# Altium integrated library Supernova Resistors.IntLib: 277 symbols (part 2 of 3)
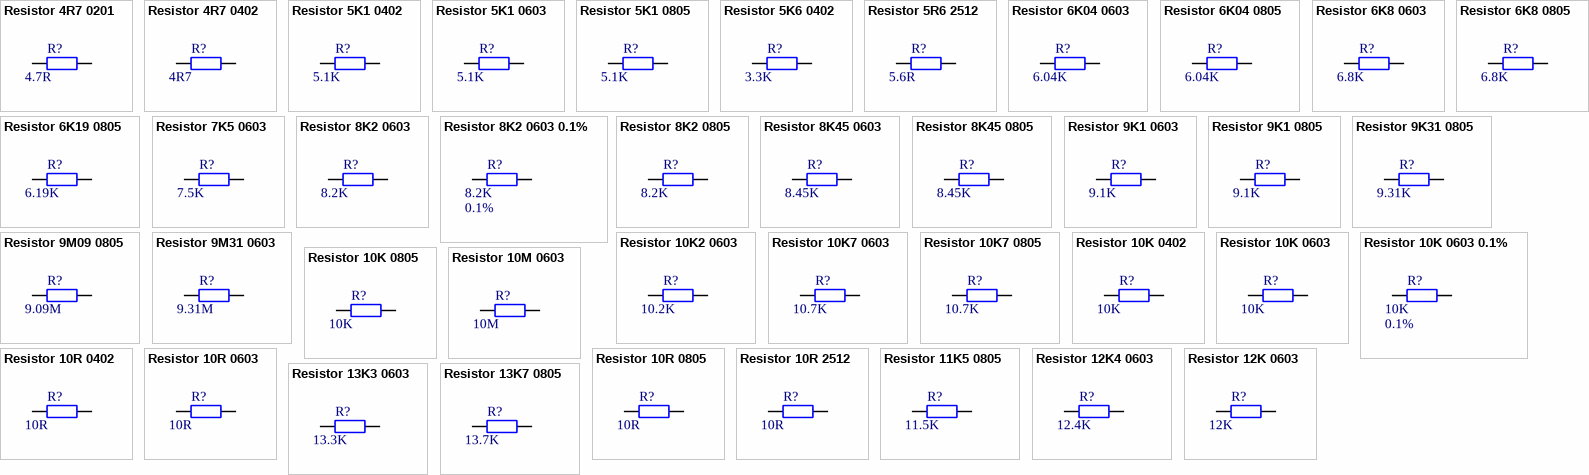
[diagram p8: symbols Resistor 4R7 0201 to Resistor 13K7 0805]

## Resistor 5R6 2512
designator R?, comment 5.6R
Resistor 5.6R 2512 1W 1%; Revision: Altium ETH 11-03.2008; Value: 5.6R; Supplier 1: Digi-Key; Supplier Part Number 1: PT5.6YCT-ND; Supplier 2: Digi-Key; Supplier Part Number 2: 541-5.60RCT-ND
footprint 2512 RES (Chip Resistor, 2-Leads, Body 6.30x3.20mm, IPC Medium Density)
simulation model Resistor
pins: 1, 2
1 alternate drawing of the same symbol

## Resistor 6K04 0603
designator R?, comment 6.04K
Resistor 6.04K 0603 0.1W 0.1%; Revision: Altium ETH 11-03.2008; Value: 6.04K; Supplier 1: Digi-Key; Supplier Part Number 1: P6.04KDBCT-ND; Supplier 2: Digi-Key; Supplier Part Number 2: YAG4769CT-ND
footprint 0603 RES (Chip Resistor, 2-Leads, Body 1.60x0.85mm, IPC Medium Density)
simulation model Resistor
pins: 1, 2
1 alternate drawing of the same symbol

## Resistor 6K04 0805
designator R?, comment 6.04K
Resistor 6.04K 0805 0.125W 0.1%; Revision: Altium ETH 11-03.2008; Value: 6.04K; Supplier 1: Digi-Key; Supplier Part Number 1: P6.04KDACT-ND; Supplier 2: Digi-Key; Supplier Part Number 2: P20683CT-ND
footprint 0805 RES (Chip Resistor, 2-Leads, Body 2.05x1.25mm, IPC Medium Density)
simulation model Resistor
pins: 1, 2
1 alternate drawing of the same symbol

## Resistor 6K8 0603
designator R?, comment 6.8K
Resistor 6.8K 0603 0.1W 1%; Mass_g: 0.002; Revision: Altium ETH 11-03.2008; Value: 6.8K; Supplier 1: Digi-Key; Supplier Part Number 1: P6.80KHCT-ND; Supplier 2: Digi-Key; Supplier Part Number 2: YAG5968CT-ND; Supplier 3: Digi-Key; Supplier Part Number 3: RMCF0603FT6K80CT-ND; Supplier 4: Digi-Key; Supplier Part Number 4: A129698CT-ND
footprint 0603 RES (Chip Resistor, 2-Leads, Body 1.60x0.85mm, IPC Medium Density)
simulation model Resistor
pins: 1, 2
1 alternate drawing of the same symbol

## Resistor 6K8 0805
designator R?, comment 6.8K
Resistor 6.8K 0805 0.125W 1%; Revision: Altium ETH 11-03.2008; Value: 6.8K; Supplier 1: Digi-Key; Supplier Part Number 1: 311-6.80KCRCT-ND; Supplier 2: Digi-Key; Supplier Part Number 2: P6.80KCCT-ND
footprint 0805 RES (Chip Resistor, 2-Leads, Body 2.05x1.25mm, IPC Medium Density)
simulation model Resistor
pins: 1, 2
1 alternate drawing of the same symbol

## Resistor 6K19 0805
designator R?, comment 6.19K
Resistor 6.19K 0805 0.125W 0.1%; Revision: Altium ETH 11-03.2008; Value: 6.19K; Supplier 1: Digi-Key; Supplier Part Number 1: P6.19KDACT-ND; Supplier 2: Digi-Key; Supplier Part Number 2: YAG1962CT-ND
footprint 0805 RES (Chip Resistor, 2-Leads, Body 2.05x1.25mm, IPC Medium Density)
simulation model Resistor
pins: 1, 2
1 alternate drawing of the same symbol

## Resistor 7K5 0603
designator R?, comment 7.5K
Resistor 7.5K 0603 0.1W 1%; Revision: Altium ETH 11-03.2008; Value: 7.5K; Supplier 1: Digi-Key; Supplier 2: Digi-Key; Supplier Part Number 1: P7.5KDBCT-ND; Supplier Part Number 2: 311-7.50KHRCT-ND
footprint 0603 RES (Chip Resistor, 2-Leads, Body 1.60x0.85mm, IPC Medium Density)
simulation model Resistor
pins: 1, 2
1 alternate drawing of the same symbol

## Resistor 8K2 0603
designator R?, comment 8.2K
Resistor 8.2K 0603 0.1W 1%; Mass_g: 0.002; Revision: Altium ETH 11-03.2008; Value: 8.2K; Supplier 1: Digi-Key; Supplier Part Number 1: 311-8.20KHRCT-ND; Supplier 2: Digi-Key; Supplier Part Number 2: P8.20KHCT-ND; Supplier 3: Digi-Key; Supplier Part Number 3: P8.2KBYCT-ND; Supplier 4: Digi-Key; Supplier Part Number 4: RMCF0603FT8K20CT-ND
footprint 0603 RES (Chip Resistor, 2-Leads, Body 1.60x0.85mm, IPC Medium Density)
simulation model Resistor
pins: 1, 2
1 alternate drawing of the same symbol

## Resistor 8K2 0603 0.1%
designator R?, comment 8.2K  Tolerance: 0.1%
Resistor 8.2K 0603 0.1W 0.1%; Mass_g: 0.002; Revision: Altium ETH 11-03.2008; Value: 8.2K; Supplier 1: Digi-Key; Supplier 2: Digi-Key; Supplier 3: Mouser; Supplier Part Number 1: A103134CT-ND; Supplier Part Number 2: A103134DKR-ND; Supplier Part Number 3: 279-CPF0603B8K2E1
footprint 0603 RES (Chip Resistor, 2-Leads, Body 1.60x0.85mm, IPC Medium Density)
simulation model Resistor
pins: 1, 2
1 alternate drawing of the same symbol

## Resistor 8K2 0805
designator R?, comment 8.2K
Resistor 8.2K 0805 0.125W 1%; Revision: Altium ETH 11-03.2008; Value: 8.2K; Supplier 1: Digi-Key; Supplier 2: Digi-Key; Supplier Part Number 1: 311-8.20KCRCT-ND; Supplier Part Number 2: P8.20KCCT-ND
footprint 0805 RES (Chip Resistor, 2-Leads, Body 2.05x1.25mm, IPC Medium Density)
simulation model Resistor
pins: 1, 2
1 alternate drawing of the same symbol

## Resistor 8K45 0603
designator R?, comment 8.45K
Resistor 8.45K 0603 0.1W 0.1%; Revision: Altium ETH 11-03.2008; Value: 8.45K; Supplier 1: Digi-Key; Supplier Part Number 1: P8.45KDBCT-ND; Supplier 2: Digi-Key; Supplier Part Number 2: P20078CT-ND
footprint 0603 RES (Chip Resistor, 2-Leads, Body 1.60x0.85mm, IPC Medium Density)
simulation model Resistor
pins: 1, 2
1 alternate drawing of the same symbol

## Resistor 8K45 0805
designator R?, comment 8.45K
Resistor 8.45K 0805 0.125W 1%; Revision: Altium ETH 11-03.2008; Value: 8.45K; Supplier 1: Digi-Key; Supplier 2: Digi-Key; Supplier Part Number 1: 311-8.45KCRCT-ND; Supplier Part Number 2: P8.45KCCT-ND
footprint 0805 RES (Chip Resistor, 2-Leads, Body 2.05x1.25mm, IPC Medium Density)
simulation model Resistor
pins: 1, 2
1 alternate drawing of the same symbol

## Resistor 9K1 0603
designator R?, comment 9.1K
Resistor 9.1K 0603 0.1W 1%; Revision: Altium ETH 11-03.2008; Value: 9.1K; Supplier 1: Digi-Key; Supplier Part Number 1: P9.10KHCT-ND; Supplier 2: Digi-Key; Supplier Part Number 2: 311-9.10KHRCT-ND
footprint 0603 RES (Chip Resistor, 2-Leads, Body 1.60x0.85mm, IPC Medium Density)
simulation model Resistor
pins: 1, 2
1 alternate drawing of the same symbol

## Resistor 9K1 0805
designator R?, comment 9.1K
Resistor 9.1K 0805 0.125W 1%; Revision: Altium ETH 11-03.2008; Value: 9.1K; Supplier 1: Digi-Key; Supplier Part Number 1: P9.10KCCT-ND; Supplier 2: Digi-Key; Supplier Part Number 2: 311-9.10KCRCT-ND
footprint 0805 RES (Chip Resistor, 2-Leads, Body 2.05x1.25mm, IPC Medium Density)
simulation model Resistor
pins: 1, 2
1 alternate drawing of the same symbol

## Resistor 9K31 0805
designator R?, comment 9.31K
Resistor 9.31K 0805 0.125W 0.1%; Revision: Altium ETH 11-03.2008; Value: 9.31K; Supplier 1: Digi-Key; Supplier 2: Digi-Key; Supplier Part Number 1: YAG2002CT-ND; Supplier Part Number 2: P20705CT-ND
footprint 0805 RES (Chip Resistor, 2-Leads, Body 2.05x1.25mm, IPC Medium Density)
simulation model Resistor
pins: 1, 2
1 alternate drawing of the same symbol

## Resistor 9M09 0805
designator R?, comment 9.09M
Resistor 9M09 0805 0.125W 1%; Revision: Altium ETH 11-03.2008; Value: 9.09M; Supplier 1: Digi-Key; Supplier Part Number 1: 541-9.09MCCT-ND; Supplier 2: Mouser; Supplier Part Number 2: 71-CRCW08059M09FKEA
footprint 0805 RES (Chip Resistor, 2-Leads, Body 2.05x1.25mm, IPC Medium Density)
simulation model Resistor
pins: 1, 2
1 alternate drawing of the same symbol

## Resistor 9M31 0603
designator R?, comment 9.31M
Resistor 9M31 0603 0.1W 1%; Value: 9.31Meg; Revision: Altium ETH 11-03.2008; Supplier 1: Digi-Key; Supplier 2: Mouser; Supplier Part Number 2: 71-CRCW06039M31FKEA; Supplier Part Number 1: 541-9.31MHCT-ND
footprint 0603 RES (Chip Resistor, 2-Leads, Body 1.60x0.85mm, IPC Medium Density)
simulation model Resistor
pins: 1, 2
1 alternate drawing of the same symbol

## Resistor 10K2 0603
designator R?, comment 10.2K
Resistor 10.2K 0603 0.1W 0.1%; Revision: Altium ETH 11-03.2008; Value: 10.2K; Supplier 1: Digi-Key; Supplier Part Number 1: YAG1502CT-ND; Supplier 2: Digi-Key; Supplier Part Number 2: P20087CT-ND
footprint 0603 RES (Chip Resistor, 2-Leads, Body 1.60x0.85mm, IPC Medium Density)
simulation model Resistor
pins: 1, 2
1 alternate drawing of the same symbol

## Resistor 10K7 0603
designator R?, comment 10.7K
Resistor 10.7K 0603 0.1W 0.1%; Revision: Altium ETH 11-03.2008; Value: 10.7K; Supplier 1: Digi-Key; Supplier Part Number 1: P10.7KDBCT-ND; Supplier 2: Digi-Key; Supplier Part Number 2: YAG1504CT-ND
footprint 0603 RES (Chip Resistor, 2-Leads, Body 1.60x0.85mm, IPC Medium Density)
simulation model Resistor
pins: 1, 2
1 alternate drawing of the same symbol

## Resistor 10K7 0805
designator R?, comment 10.7K
Resistor 10.7K 0805 0.125W 0.1%; Revision: Altium ETH 11-03.2008; Value: 10.7K; Supplier 1: Digi-Key; Supplier Part Number 1: P10.7KDACT-ND; Supplier 2: Digi-Key; Supplier Part Number 2: YAG1762CT-ND
footprint 0805 RES (Chip Resistor, 2-Leads, Body 2.05x1.25mm, IPC Medium Density)
simulation model Resistor
pins: 1, 2
1 alternate drawing of the same symbol

## Resistor 10K 0402
designator R?, comment 10K
Resistor 10K 0402 0.063W 1%; Revision: Altium ETH 11-03.2008; Value: 10K; Supplier 1: Digi-Key; Supplier Part Number 1: 311-10.0KLRCT-ND; Supplier 2: Digi-Key; Supplier Part Number 2: 1276-3431-1-ND; Supplier 3: Digi-Key; Supplier Part Number 3: A129639CT-ND
footprint 0402 RES (Chip Capacitor, 2-Leads, Body 1.00x0.50mm, IPC Medium Density)
simulation model Resistor
pins: 1, 2
1 alternate drawing of the same symbol

## Resistor 10K 0603
designator R?, comment 10K
Resistor 10K 0603 0.1W 1%; Mass_g: 0.002; Revision: Altium ETH 11-03.2008; Value: 10K; Supplier 1: Digi-Key; Supplier Part Number 1: 311-10.0KHRCT-ND; Supplier 2: Digi-Key; Supplier Part Number 2: P10KBYCT-ND
footprint 0603 RES (Chip Resistor, 2-Leads, Body 1.60x0.85mm, IPC Medium Density)
simulation model Resistor
pins: 1, 2
1 alternate drawing of the same symbol

## Resistor 10K 0603 0.1%
designator R?, comment 10K  Tolerance: 0.1%
Resistor 10K 0603 0.1W 0.1%; Mass_g: 0.002; Revision: Altium ETH 11-03.2008; Value: 10K; Supplier 1: Mouser; Supplier 2: Mouser; Supplier Part Number 1: 667-ERA-3AEB103V; Supplier Part Number 2: 71-TNPW060310K0BEEA
footprint 0603 RES (Chip Resistor, 2-Leads, Body 1.60x0.85mm, IPC Medium Density)
simulation model Resistor
pins: 1, 2
1 alternate drawing of the same symbol

## Resistor 10K 0805
designator R?, comment 10K
Resistor 10K 0805 0.125W 1%; Revision: Altium ETH 11-03.2008; Value: 10K; Supplier 1: Digi-Key; Supplier Part Number 1: 311-10.0KCRCT-ND; Supplier 2: Digi-Key; Supplier Part Number 2: YAG1239CT-ND
footprint 0805 RES (Chip Resistor, 2-Leads, Body 2.05x1.25mm, IPC Medium Density)
simulation model Resistor
footprint 0805 RES - DNP (Chip Resistor, 2-Leads, Body 2.05x1.25mm, IPC Medium Density)
footprint 0805 RES - SM Defined (Chip Resistor, 2-Leads, Body 2.05x1.25mm, IPC Medium Density)
pins: 1, 2
1 alternate drawing of the same symbol

## Resistor 10M 0603
designator R?, comment 10M
Resistor 10M 0603 0.1W 1%; Value: 10Meg; Revision: Altium ETH 11-03.2008; Supplier 1: Digi-Key; Supplier Part Number 1: 1276-4990-1-ND; Supplier 2: Digi-Key; Supplier Part Number 2: 311-10.0MHRCT-ND; Supplier 3: Digi-Key; Supplier Part Number 3: RHM10.0MAYCT-ND
footprint 0603 RES (Chip Resistor, 2-Leads, Body 1.60x0.85mm, IPC Medium Density)
simulation model Resistor
pins: 1, 2
1 alternate drawing of the same symbol

## Resistor 10R 0402
designator R?, comment 10R
Resistor 10R 0402 0.063W; Revision: Altium ETH 11-03.2008; Value: 10R; Supplier 1: Digi-Key; Supplier Part Number 1: RHM1000CT-ND; Supplier 2: Digi-Key; Supplier Part Number 2: P17181CT-ND; Supplier 3: Digi-Key; Supplier Part Number 3: 541-2907-1-ND
footprint 0402 RES (Chip Capacitor, 2-Leads, Body 1.00x0.50mm, IPC Medium Density)
simulation model Resistor
pins: 1, 2
1 alternate drawing of the same symbol

## Resistor 10R 0603
designator R?, comment 10R
Resistor 10R 0603 0.1W 1%; Mass_g: 0.002; Revision: Altium ETH 11-03.2008; Value: 10R; Supplier 1: Digi-Key; Supplier Part Number 1: P10.0HCT-ND; Supplier 2: Digi-Key; Supplier Part Number 2: 311-10.0HRCT-ND; Supplier 3: Digi-Key; Supplier Part Number 3: RMCF0603FT10R0CT-ND
footprint 0603 RES (Chip Resistor, 2-Leads, Body 1.60x0.85mm, IPC Medium Density)
simulation model Resistor
pins: 1, 2
1 alternate drawing of the same symbol

## Resistor 10R 0805
designator R?, comment 10R
Resistor 10R 0805 0.125W 1%; Revision: Altium ETH 11-03.2008; Value: 10R; Supplier 1: Digi-Key; Supplier Part Number 1: P10.0CTR-ND; Supplier 2: Digi-Key; Supplier Part Number 2: 311-10.0CRCT-ND
footprint 0805 RES (Chip Resistor, 2-Leads, Body 2.05x1.25mm, IPC Medium Density)
simulation model Resistor
pins: 1, 2
1 alternate drawing of the same symbol

## Resistor 10R 2512
designator R?, comment 10R
Resistor 10R 2512 1W 1%; Revision: Altium ETH 11-03.2008; Value: 10R; Supplier 1: Digi-Key; Supplier Part Number 1: PT10.0AFCT-ND; Supplier 2: Digi-Key; Supplier Part Number 2: CRM2512-FX-10R0ELFCT-ND
footprint 2512 RES (Chip Resistor, 2-Leads, Body 6.30x3.20mm, IPC Medium Density)
simulation model Resistor
pins: 1, 2
1 alternate drawing of the same symbol

## Resistor 11K5 0805
designator R?, comment 11.5K
Resistor 11.5K 0805 0.125W 0.1%; Revision: Altium ETH 11-03.2008; Value: 11.5K; Supplier 1: Digi-Key; Supplier 2: Digi-Key; Supplier Part Number 1: YAG1768CT-ND; Supplier Part Number 2: P11.5KDACT-ND
footprint 0805 RES (Chip Resistor, 2-Leads, Body 2.05x1.25mm, IPC Medium Density)
simulation model Resistor
pins: 1, 2
1 alternate drawing of the same symbol

## Resistor 12K4 0603
designator R?, comment 12.4K
Resistor 12.4K 0603 0.1W 0.1%; Revision: Altium ETH 11-03.2008; Value: 12.4K; Supplier 1: Digi-Key; Supplier 2: Digi-Key; Supplier Part Number 1: P20096CT-ND; Supplier Part Number 2: YAG4620CT-ND
footprint 0603 RES (Chip Resistor, 2-Leads, Body 1.60x0.85mm, IPC Medium Density)
simulation model Resistor
pins: 1, 2
1 alternate drawing of the same symbol

## Resistor 12K 0603
designator R?, comment 12K
Resistor 12K 0603 0.1W 1%; Revision: Altium ETH 11-03.2008; Value: 12K; Supplier 1: Digi-Key; Supplier Part Number 1: P12.0KHCT-ND; Supplier 2: Digi-Key; Supplier Part Number 2: 311-12.0KHRCT-ND; Supplier 3: Digi-Key; Supplier Part Number 3: RMCF0603FT12K0CT-ND
footprint 0603 RES (Chip Resistor, 2-Leads, Body 1.60x0.85mm, IPC Medium Density)
simulation model Resistor
pins: 1, 2
1 alternate drawing of the same symbol

## Resistor 13K3 0603
designator R?, comment 13.3K
Resistor 13.3K 0603 0.1W 1%; Mass_g: 0.002; Revision: Altium ETH 11-03.2008; Value: 13.3K; Supplier 1: Digi-Key; Supplier 2: Digi-Key; Supplier Part Number 1: 311-13.3KHRCT-ND; Supplier Part Number 2: P13.3KHCT-ND
footprint 0603 RES (Chip Resistor, 2-Leads, Body 1.60x0.85mm, IPC Medium Density)
simulation model Resistor
pins: 1, 2
1 alternate drawing of the same symbol

## Resistor 13K7 0805
designator R?, comment 13.7K
Resistor 13.7K 0805 0.125W 0.1%; Revision: Altium ETH 11-03.2008; Value: 13.7K; Supplier 1: Digi-Key; Supplier Part Number 1: P20722CT-ND; Supplier 2: Digi-Key; Supplier Part Number 2: P13.7KDACT-ND
footprint 0805 RES (Chip Resistor, 2-Leads, Body 2.05x1.25mm, IPC Medium Density)
simulation model Resistor
pins: 1, 2
1 alternate drawing of the same symbol

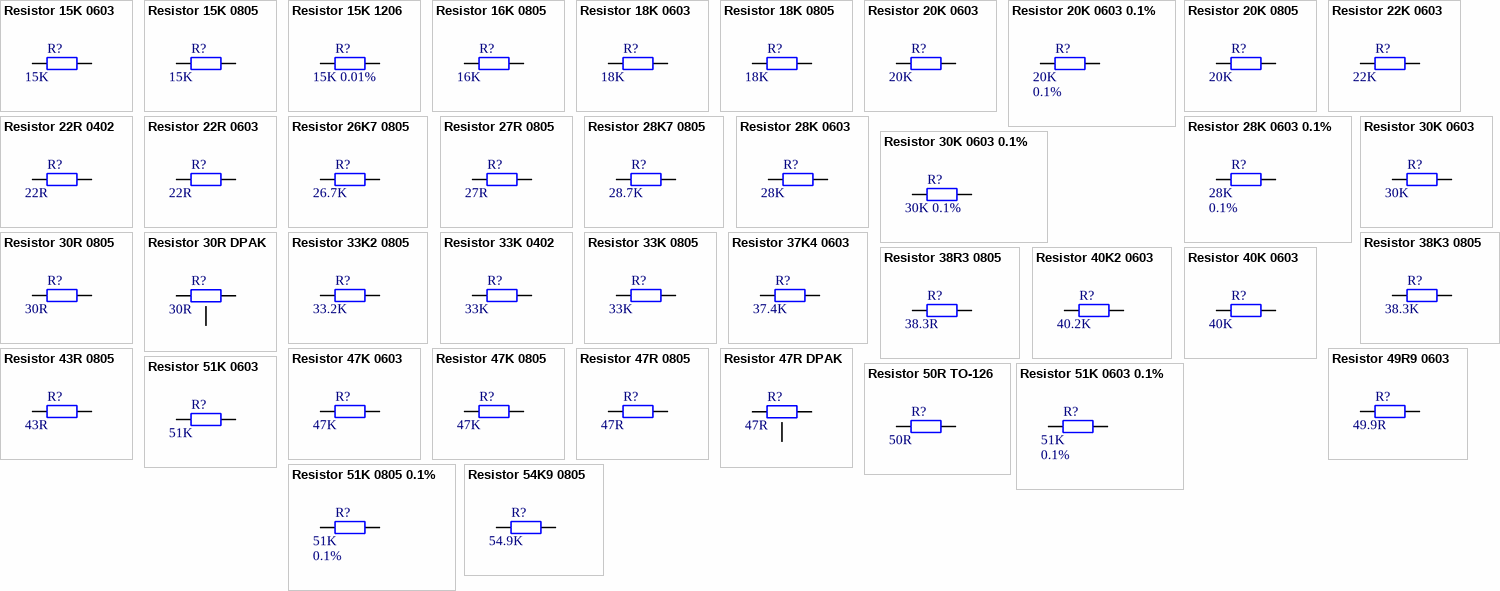
[diagram p4: symbols Resistor 15K 0603 to Resistor 54K9 0805]

## Resistor 15K 0603
designator R?, comment 15K
Resistor 15K 0603 0.1W 1%; Revision: Altium ETH 11-03.2008; Value: 15K; Supplier 1: Digi-Key; Supplier Part Number 1: P15.0KHCT-ND; Supplier 2: Digi-Key; Supplier Part Number 2: 311-15.0KHRCT-ND
footprint 0603 RES (Chip Resistor, 2-Leads, Body 1.60x0.85mm, IPC Medium Density)
simulation model Resistor
pins: 1, 2
1 alternate drawing of the same symbol

## Resistor 15K 0805
designator R?, comment 15K
Resistor 15K 0805 0.125W 1%; Revision: Altium ETH 11-03.2008; Value: 15K; Supplier 1: Digi-Key; Supplier Part Number 1: P15.0KCCT-ND; Supplier 2: Digi-Key; Supplier Part Number 2: 311-15.0KCRCT-ND
footprint 0805 RES (Chip Resistor, 2-Leads, Body 2.05x1.25mm, IPC Medium Density)
simulation model Resistor
pins: 1, 2
1 alternate drawing of the same symbol

## Resistor 15K 1206
designator R?, comment 15K 0.01%
Resistor 15K 1206 0.25W 0.01%; Revision: Altium ETH 11-03.2008; Value: 15K 0.01%; Supplier 1: Digi-Key; Supplier Part Number 1: Y1630-15.0KBCT-ND; Supplier 2: Digi-Key; Supplier Part Number 2: 541-3082-1-ND
footprint 1206 RES (Chip Resistor, 2-Leads, Body 3.20x1.60mm, IPC Medium Density)
simulation model Resistor
pins: 1, 2
1 alternate drawing of the same symbol

## Resistor 16K 0805
designator R?, comment 16K
Resistor 16K 0805 0.1W 1%; Revision: Altium ETH 11-03.2008; Value: 16K; Supplier 1: Digi-Key; Supplier 2: Digi-Key; Supplier Part Number 1: 311-16.0KCRCT-ND; Supplier Part Number 2: P16.0KCCT-ND
footprint 0805 RES (Chip Resistor, 2-Leads, Body 2.05x1.25mm, IPC Medium Density)
simulation model Resistor
pins: 1, 2
1 alternate drawing of the same symbol

## Resistor 18K 0603
designator R?, comment 18K
Resistor 18K 0603 0.1W 1%; Revision: Altium ETH 11-03.2008; Value: 18K; Supplier 1: Digi-Key; Supplier Part Number 1: P18.0KHCT-ND; Supplier 2: Digi-Key; Supplier Part Number 2: 311-18.0KHRCT-ND
footprint 0603 RES (Chip Resistor, 2-Leads, Body 1.60x0.85mm, IPC Medium Density)
simulation model Resistor
pins: 1, 2
1 alternate drawing of the same symbol

## Resistor 18K 0805
designator R?, comment 18K
Resistor 18K 0805 0.125W 1%; Revision: Altium ETH 11-03.2008; Value: 18K; Supplier 1: Digi-Key; Supplier Part Number 1: P18.0KCCT-ND; Supplier 2: Digi-Key; Supplier Part Number 2: 311-18.0KCRCT-ND
footprint 0805 RES (Chip Resistor, 2-Leads, Body 2.05x1.25mm, IPC Medium Density)
simulation model Resistor
pins: 1, 2
1 alternate drawing of the same symbol

## Resistor 20K 0603
designator R?, comment 20K
Resistor 20K 0603 0.1W 1%; Mass_g: 0.002; Revision: Altium ETH 11-03.2008; Value: 20K; Supplier 1: Digi-Key; Supplier Part Number 1: P20KDBCT-ND; Supplier 2: Digi-Key; Supplier Part Number 2: P20.0KHCT-ND; Supplier 3: Digi-Key; Supplier Part Number 3: P20KBYCT-ND; Supplier 4: Digi-Key; Supplier Part Number 4: 541-2797-1-ND
footprint 0603 RES (Chip Resistor, 2-Leads, Body 1.60x0.85mm, IPC Medium Density)
simulation model Resistor
pins: 1, 2
1 alternate drawing of the same symbol

## Resistor 20K 0603 0.1%
designator R?, comment 20K  Tolerance: 0.1%
Resistor 20K 0603 0.1W 0.1%; Mass_g: 0.002; Revision: Altium ETH 11-03.2008; Value: 20K; Supplier 1: Digi-Key; Supplier 2: Mouser; Supplier Part Number 1: P20KDBCT-ND; Supplier Part Number 2: 71-TNPW060320K0BETA
footprint 0603 RES (Chip Resistor, 2-Leads, Body 1.60x0.85mm, IPC Medium Density)
simulation model Resistor
pins: 1, 2
1 alternate drawing of the same symbol

## Resistor 20K 0805
designator R?, comment 20K
Resistor 20K 0805 0.1W 1%; Mass_g: 0.0055; Revision: Altium ETH 11-03.2008; Value: 20K; Supplier 1: Digi-Key; Supplier Part Number 1: RMCF0805FT20K0CT-ND; Supplier 2: Digi-Key; Supplier Part Number 2: P20.0KCCT-ND
footprint 0805 RES (Chip Resistor, 2-Leads, Body 2.05x1.25mm, IPC Medium Density)
simulation model Resistor
footprint 0805 RES - for POT (Chip Resistor, 2-Leads, Body 2.05x1.25mm, IPC Medium Density)
pins: 1, 2
1 alternate drawing of the same symbol

## Resistor 22K 0603
designator R?, comment 22K
Resistor 22K 0603 0.1W 1%; Revision: Altium ETH 11-03.2008; Value: 22K; Supplier 1: Digi-Key; Supplier 2: Digi-Key; Supplier Part Number 1: 311-22.0KHRTR-ND; Supplier Part Number 2: A129704CT-ND
footprint 0603 RES (Chip Resistor, 2-Leads, Body 1.60x0.85mm, IPC Medium Density)
simulation model Resistor
pins: 1, 2
1 alternate drawing of the same symbol

## Resistor 22R 0402
designator R?, comment 22R
Resistor 22R 0402 0.063W 1%; Revision: Altium ETH 11-03.2008; Value: 22R; Supplier 1: Digi-Key; Supplier Part Number 1: 311-22.0LRCT-ND; Supplier 2: Digi-Key; Supplier Part Number 2: P22.0LCT-ND; Supplier 3: Digi-Key; Supplier Part Number 3: A129607CT-ND
footprint 0402 RES (Chip Capacitor, 2-Leads, Body 1.00x0.50mm, IPC Medium Density)
simulation model Resistor
pins: 1, 2
1 alternate drawing of the same symbol

## Resistor 22R 0603
designator R?, comment 22R
Resistor 22R 0603 0.1W 1%; Revision: Altium ETH 11-03.2008; Value: 22R; Supplier 1: Digi-Key; Supplier Part Number 1: P22.00BYCT-ND; Supplier 2: Digi-Key; Supplier Part Number 2: RMCF0603FT22R0CT-ND
footprint 0603 RES (Chip Resistor, 2-Leads, Body 1.60x0.85mm, IPC Medium Density)
simulation model Resistor
pins: 1, 2
1 alternate drawing of the same symbol

## Resistor 26K7 0805
designator R?, comment 26.7K
Resistor 26.7K 0805 0.125W 0.1%; Revision: Altium ETH 11-03.2008; Value: 26.7K; Supplier 1: Digi-Key; Supplier Part Number 1: P26.7KDACT-ND; Supplier 2: Digi-Key; Supplier Part Number 2: YAG4866CT-ND
footprint 0805 RES (Chip Resistor, 2-Leads, Body 2.05x1.25mm, IPC Medium Density)
simulation model Resistor
pins: 1, 2
1 alternate drawing of the same symbol

## Resistor 27R 0805
designator R?, comment 27R
Resistor 27R 0805 0.125W 1%; Revision: Altium ETH 11-03.2008; Value: 27R; Supplier 1: Digi-Key; Supplier Part Number 1: 311-27.0CRCT-ND; Supplier 2: Digi-Key; Supplier Part Number 2: P27.0CCT-ND
footprint 0805 RES (Chip Resistor, 2-Leads, Body 2.05x1.25mm, IPC Medium Density)
simulation model Resistor
pins: 1, 2
1 alternate drawing of the same symbol

## Resistor 28K7 0805
designator R?, comment 28.7K
Resistor 28.7K 0805 0.125W 0.1%; Revision: Altium ETH 11-03.2008; Value: 28.7K; Supplier 1: Digi-Key; Supplier 2: Digi-Key; Supplier Part Number 1: P28.7KDACT-ND; Supplier Part Number 2: RG20P28.7KBCT-ND
footprint 0805 RES (Chip Resistor, 2-Leads, Body 2.05x1.25mm, IPC Medium Density)
simulation model Resistor
pins: 1, 2
1 alternate drawing of the same symbol

## Resistor 28K 0603
designator R?, comment 28K
Resistor 28K 0603 0.1W 1%; Revision: Altium ETH 11-03.2008; Value: 28K; Supplier 1: Avnet; Supplier Part Number 1: RMCF0603FT28K0; Supplier 2: Digi-Key; Supplier Part Number 2: RMCF0603FT28K0CT-ND
footprint 0603 RES (Chip Resistor, 2-Leads, Body 1.60x0.85mm, IPC Medium Density)
simulation model Resistor
pins: 1, 2
1 alternate drawing of the same symbol

## Resistor 28K 0603 0.1%
designator R?, comment 28K  Tolerance: 0.1%
Resistor 28K 0603 0.1W 0.1%; Revision: Altium ETH 11-03.2008; Value: 28K; Supplier 1: Digi-Key; Supplier 2: Digi-Key; Supplier 3: Digi-Key; Supplier Part Number 1: P28KDBCT-ND; Supplier Part Number 2: P28KDBDKR-ND; Supplier Part Number 3: P28KDBTR-ND
footprint 0603 RES (Chip Resistor, 2-Leads, Body 1.60x0.85mm, IPC Medium Density)
simulation model Resistor
pins: 1, 2
1 alternate drawing of the same symbol

## Resistor 30K 0603
designator R?, comment 30K
Resistor 30K 0603 0.1W 1%; Revision: Altium ETH 11-03.2008; Value: 30K; Supplier 1: Digi-Key; Supplier Part Number 1: 311-30.0KHRCT-ND; Supplier 2: Digi-Key; Supplier Part Number 2: P30.0KHCT-ND; Supplier 3: Digi-Key; Supplier Part Number 3: RMCF0603FT30K0CT-ND
footprint 0603 RES (Chip Resistor, 2-Leads, Body 1.60x0.85mm, IPC Medium Density)
simulation model Resistor
pins: 1, 2
1 alternate drawing of the same symbol

## Resistor 30K 0603 0.1%
designator R?, comment 30K 0.1%
Resistor 30K 0603 0.1W 0.1%; Revision: Altium ETH 11-03.2008; Value: 30K 0.1%; Supplier 1: Mouser; Supplier Part Number 1: 667-ERA-3AEB303V; Supplier 2: Digi-Key; Supplier Part Number 2: P30KDBCT-ND; Supplier 3: Digi-Key; Supplier Part Number 3: 2019-RN73H1JTTD3002B25CT-ND
footprint 0603 RES (Chip Resistor, 2-Leads, Body 1.60x0.85mm, IPC Medium Density)
simulation model Resistor
pins: 1, 2
1 alternate drawing of the same symbol

## Resistor 30R 0805
designator R?, comment 30R
Resistor 30R 0805 0.125W 1%; Revision: Altium ETH 11-03.2008; Value: 30R; Supplier 1: Digi-Key; Supplier Part Number 1: P30.0CCT-ND; Supplier 2: Digi-Key; Supplier Part Number 2: 311-30.0CRCT-ND
footprint 0805 RES (Chip Resistor, 2-Leads, Body 2.05x1.25mm, IPC Medium Density)
simulation model Resistor
pins: 1, 2
1 alternate drawing of the same symbol

## Resistor 30R DPAK
designator R?, comment 30R
Resistor 30R DPAK 25W 5%; Revision: Altium ETH 11-03.2008; Value: 30R; Supplier 1: Digi-Key; Supplier Part Number 1: PWR163S-25-30R0F-ND; Supplier 2: Digi-Key; Supplier Part Number 2: PWR163S-25-30R0J-ND
footprint DPAK - Bourns (D2-PAK/TO-263-AB; 3 Leads (1 Cropped); Body 15.5 (inc. leads) x 10.5 mm (LxW max))
simulation model Resistor
footprint DPAK - Bourns - SM Defined (D2-PAK/TO-263-AB; 3 Leads (1 Cropped); Body 15.5 (inc. leads) x 10.5 mm (LxW max))
pins: 1, 2, 3

## Resistor 33K2 0805
designator R?, comment 33.2K
Resistor 33.2K 0805 0.125W 0.1%; Revision: Altium ETH 11-03.2008; Value: 33.2K; Supplier 1: Digi-Key; Supplier Part Number 1: P33.2KDACT-ND; Supplier 2: Digi-Key; Supplier Part Number 2: P20766CT-ND
footprint 0805 RES (Chip Resistor, 2-Leads, Body 2.05x1.25mm, IPC Medium Density)
simulation model Resistor
pins: 1, 2
1 alternate drawing of the same symbol

## Resistor 33K 0402
designator R?, comment 33K
Resistor 33K 0402 0.063W 1%; Revision: Altium ETH 11-03.2008; Value: 33K; Supplier 1: Digi-Key; Supplier 2: Digi-Key; Supplier Part Number 1: 311-33.0KLRCT-ND; Supplier Part Number 2: P33.0KLCT-ND
footprint 0402 RES (Chip Capacitor, 2-Leads, Body 1.00x0.50mm, IPC Medium Density)
simulation model Resistor
pins: 1, 2
1 alternate drawing of the same symbol

## Resistor 33K 0805
designator R?, comment 33K
Resistor 33K 0805 0.125W 1%; Revision: Altium ETH 11-03.2008; Value: 33K; Supplier 1: Digi-Key; Supplier Part Number 1: P33.0KCCT-ND; Supplier 2: Digi-Key; Supplier Part Number 2: YAG3726CT-ND
footprint 0805 RES (Chip Resistor, 2-Leads, Body 2.05x1.25mm, IPC Medium Density)
simulation model Resistor
pins: 1, 2
1 alternate drawing of the same symbol

## Resistor 37K4 0603
designator R?, comment 37.4K
Resistor 37.4K 0603 0.1W 0.1%; Mass_g: 0.002; Revision: Altium ETH 11-03.2008; Value: 37.4K; Supplier 1: Digi-Key; Supplier 2: Digi-Key; Supplier Part Number 1: YAG4540CT-ND; Supplier Part Number 2: P20150CT-ND
footprint 0603 RES (Chip Resistor, 2-Leads, Body 1.60x0.85mm, IPC Medium Density)
simulation model Resistor
pins: 1, 2
1 alternate drawing of the same symbol

## Resistor 38K3 0805
designator R?, comment 38.3K
Resistor 38.3K 0805 0.125W 1%; Revision: Altium ETH 11-03.2008; Value: 38.3K; Supplier 1: Digi-Key; Supplier 2: Digi-Key; Supplier Part Number 1: 311-38.3KCRCT-ND; Supplier Part Number 2: P38.3KCCT-ND
footprint 0805 RES (Chip Resistor, 2-Leads, Body 2.05x1.25mm, IPC Medium Density)
simulation model Resistor
pins: 1, 2
1 alternate drawing of the same symbol

## Resistor 38R3 0805
designator R?, comment 38.3R
Resistor 38.3R 0805 0.125W 0.1%; Revision: Altium ETH 11-03.2008; Value: 38.3R; Supplier 1: Digi-Key; Supplier 2: Digi-Key; Supplier Part Number 1: P38.3KDACT-ND; Supplier Part Number 2: YAG1879CT-ND
footprint 0805 RES (Chip Resistor, 2-Leads, Body 2.05x1.25mm, IPC Medium Density)
simulation model Resistor
pins: 1, 2
1 alternate drawing of the same symbol

## Resistor 40K2 0603
designator R?, comment 40.2K
Resistor 40.2K 0603 0.1W 1%; Revision: Altium ETH 11-03.2008; Value: 40.2K; Supplier 1: Digi-Key; Supplier 2: Digi-Key; Supplier Part Number 2: YAG3608CT-ND; Supplier Part Number 1: P40.2KHCT-ND
footprint 0603 RES (Chip Resistor, 2-Leads, Body 1.60x0.85mm, IPC Medium Density)
simulation model Resistor
pins: 1, 2
1 alternate drawing of the same symbol

## Resistor 40K 0603
designator R?, comment 40K
Resistor 40K 0603 0.1W 1%; Revision: Altium ETH 11-03.2008; Value: 40K; Supplier 1: Digi-Key; Supplier 2: Digi-Key; Supplier Part Number 1: 311-40.0KHCT-ND; Supplier Part Number 2: 311-40.0KHTR-ND
footprint 0603 RES (Chip Resistor, 2-Leads, Body 1.60x0.85mm, IPC Medium Density)
simulation model Resistor
pins: 1, 2
1 alternate drawing of the same symbol

## Resistor 43R 0805
designator R?, comment 43R
Resistor 43R 0805 0.5W 5%; Revision: Altium ETH 11-03.2008; Value: 43R; Supplier 1: Digi-Key; Supplier Part Number 1: P43ADCT-ND; Supplier 2: Digi-Key; Supplier Part Number 2: 541-43.0TCT-ND
footprint 0805 RES (Chip Resistor, 2-Leads, Body 2.05x1.25mm, IPC Medium Density)
simulation model Resistor
pins: 1, 2
1 alternate drawing of the same symbol

## Resistor 47K 0603
designator R?, comment 47K
Resistor 47K 0603 0.1W 1%; Revision: Altium ETH 11-03.2008; Value: 47K; Supplier 1: Mouser; Supplier Part Number 1: 667-ERJ-3EKF4702V; Supplier 2: Digi-Key; Supplier Part Number 2: P47.0KHCT-ND; Supplier 3: Digi-Key; Supplier Part Number 3: RMCF0603FT47K0CT-ND
footprint 0603 RES (Chip Resistor, 2-Leads, Body 1.60x0.85mm, IPC Medium Density)
simulation model Resistor
pins: 1, 2
1 alternate drawing of the same symbol

## Resistor 47K 0805
designator R?, comment 47K
Resistor 47K 0805 0.125W 1%; Revision: Altium ETH 11-03.2008; Value: 47K; Supplier 1: Digi-Key; Supplier Part Number 1: 311-47.0KCRCT-ND; Supplier 2: Digi-Key; Supplier Part Number 2: P16905CT-ND
footprint 0805 RES (Chip Resistor, 2-Leads, Body 2.05x1.25mm, IPC Medium Density)
simulation model Resistor
pins: 1, 2
1 alternate drawing of the same symbol

## Resistor 47R 0805
designator R?, comment 47R
Resistor 47R 0805 0.5W 5%; Revision: Altium ETH 11-03.2008; Value: 47R; Supplier 1: Digi-Key; Supplier 2: Digi-Key; Supplier Part Number 1: P47ADCT-ND; Supplier Part Number 2: 541-47TACT-ND
footprint 0805 RES (Chip Resistor, 2-Leads, Body 2.05x1.25mm, IPC Medium Density)
simulation model Resistor
pins: 1, 2
1 alternate drawing of the same symbol

## Resistor 47R DPAK
designator R?, comment 47R
Resistor 47R DPAK 25W 5%; Revision: Altium ETH 11-03.2008; Value: 47R; Supplier 1: Digi-Key; Supplier Part Number 1: PWR163S-25-47R0J-ND; Supplier 2: Digi-Key; Supplier Part Number 2: PWR163S-25-47R0F-ND; Supplier 3: Newark; Supplier Part Number 3: 06X6682; Supplier 4: Mouser; Supplier Part Number 4: 652-PWR163S-25-47R0J; Supplier 5: Newark; Supplier Part Number 5: 06X6681
footprint PWR163 (D2-PAK/TO-263-AB; 3 Leads (1 Cropped); Body 15.5 (inc. leads) x 10.5 mm (LxW max))
simulation model Resistor
pins: 1, 2, 3
1 alternate drawing of the same symbol

## Resistor 49R9 0603
designator R?, comment 49.9R
Resistor 49.9R 0603 0.1W 0.1%; Revision: Altium ETH 11-03.2008; Value: 49.9R; Supplier 1: Digi-Key; Supplier Part Number 1: YAG4740CT-ND; Supplier 2: Digi-Key; Supplier Part Number 2: P49.9DBCT-ND; Supplier 3: Digi-Key; Supplier Part Number 3: A109983CT-ND; Supplier 4: Digi-Key; Supplier Part Number 4: YAG1672CT-ND
footprint 0603 RES (Chip Resistor, 2-Leads, Body 1.60x0.85mm, IPC Medium Density)
simulation model Resistor
pins: 1, 2
1 alternate drawing of the same symbol

## Resistor 50R TO-126
designator R?, comment 50R
Resistor 50R TO-126 20W 1%; Revision: Altium ETH 11-03.2008; Value: 50R; Supplier 1: Digi-Key; Supplier 2: Digi-Key; Supplier Part Number 1: 696-1157-ND; Supplier Part Number 2: MP825-5.00-1%-ND
footprint TO-126-2
simulation model Resistor
pins: 1, 2
1 alternate drawing of the same symbol

## Resistor 51K 0603
designator R?, comment 51K
Resistor 51K 0603 0.1W 1%; Revision: Altium ETH 11-03.2008; Value: 51K; Supplier 1: Digi-Key; Supplier Part Number 1: P51.0KHCT-ND; Supplier 2: Digi-Key; Supplier Part Number 2: 311-51.0KHRCT-ND; Supplier 3: Digi-Key; Supplier Part Number 3: RMCF0603FT51K0CT-ND
footprint 0603 RES (Chip Resistor, 2-Leads, Body 1.60x0.85mm, IPC Medium Density)
simulation model Resistor
pins: 1, 2
1 alternate drawing of the same symbol

## Resistor 51K 0603 0.1%
designator R?, comment 51K  Tolerance: 0.1%
Resistor 51K 0603 0.1W 0.1%; Revision: Altium ETH 11-03.2008; Value: 51K; Supplier 1: Digi-Key; Supplier 2: Digi-Key; Supplier 3: Digi-Key; Supplier Part Number 1: P51KDBCT-ND; Supplier Part Number 2: P51KDBDKR-ND; Supplier Part Number 3: P51KDBTR-ND
footprint 0603 RES (Chip Resistor, 2-Leads, Body 1.60x0.85mm, IPC Medium Density)
simulation model Resistor
pins: 1, 2
1 alternate drawing of the same symbol

## Resistor 51K 0805 0.1%
designator R?, comment 51K  Tolerance: 0.1%
Resistor 51K 0805 0.125W 0.1%; Mass_g: 0.0055; Revision: Altium ETH 11-03.2008; Value: 51K; Supplier 1: Digi-Key; Supplier Part Number 1: RG20P51.0KBCT-ND; Supplier 2: Digi-Key; Supplier Part Number 2: 541-3220-1-ND
footprint 0805 RES (Chip Resistor, 2-Leads, Body 2.05x1.25mm, IPC Medium Density)
simulation model Resistor
pins: 1, 2
1 alternate drawing of the same symbol

## Resistor 54K9 0805
designator R?, comment 54.9K
Resistor 54.9K 0805 0.125W 0.1%; Revision: Altium ETH 11-03.2008; Value: 54.9K; Supplier 1: Digi-Key; Supplier Part Number 1: P54.9KDACT-ND; Supplier 2: Digi-Key; Supplier Part Number 2: P20792CT-ND
footprint 0805 RES (Chip Resistor, 2-Leads, Body 2.05x1.25mm, IPC Medium Density)
simulation model Resistor
pins: 1, 2
1 alternate drawing of the same symbol

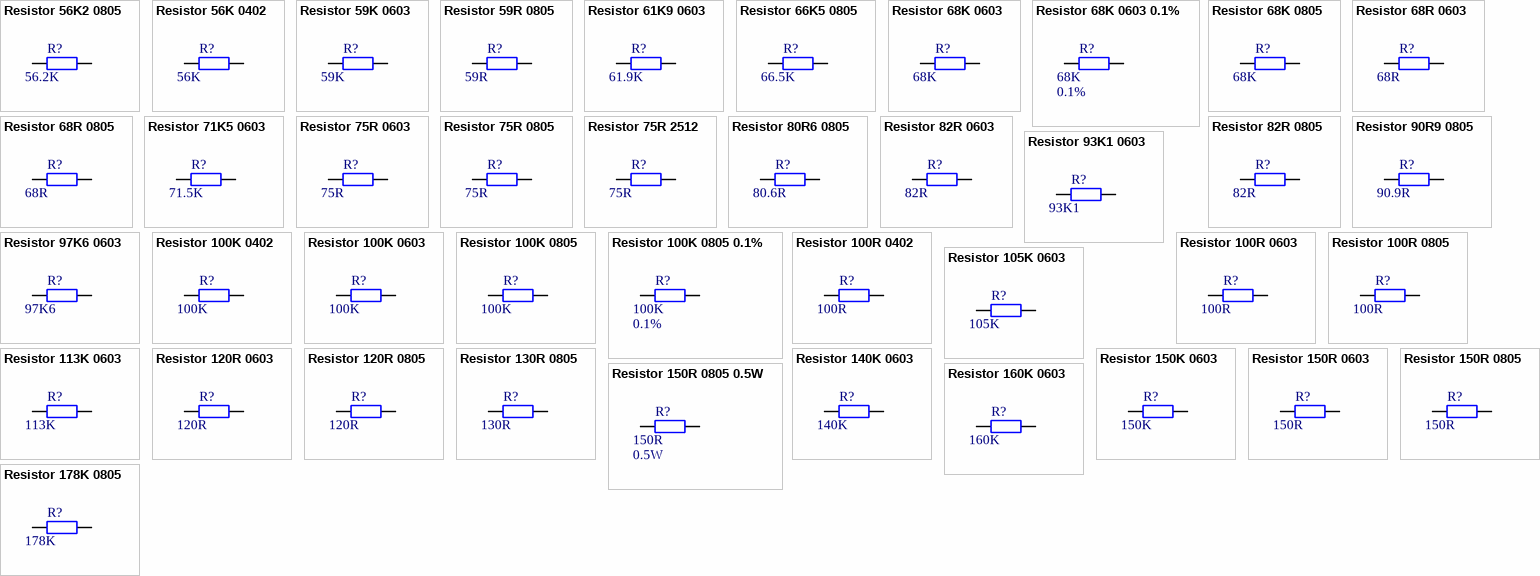
[diagram p5: symbols Resistor 56K2 0805 to Resistor 178K 0805]

## Resistor 56K2 0805
designator R?, comment 56.2K
Resistor 56.2K 0805 0.1W 0.1%; Revision: Altium ETH 11-03.2008; Value: 56.2K; Supplier 1: Digi-Key; Supplier 2: Digi-Key; Supplier Part Number 1: P20794CT-ND; Supplier Part Number 2: YAG1932CT-ND
footprint 0805 RES (Chip Resistor, 2-Leads, Body 2.05x1.25mm, IPC Medium Density)
simulation model Resistor
pins: 1, 2
1 alternate drawing of the same symbol

## Resistor 56K 0402
designator R?, comment 56K
Resistor 56K 0402 0.063W 1%; Revision: Altium ETH 11-03.2008; Value: 56K; Supplier 1: Digi-Key; Supplier 2: Digi-Key; Supplier Part Number 1: P56.0KLCT-ND; Supplier Part Number 2: 311-56.0KLRCT-ND
footprint 0402 RES (Chip Capacitor, 2-Leads, Body 1.00x0.50mm, IPC Medium Density)
simulation model Resistor
pins: 1, 2
1 alternate drawing of the same symbol

## Resistor 59K 0603
designator R?, comment 59K
Resistor 59K 0603 0.1W 1%; Revision: Altium ETH 11-03.2008; Value: 59K; Supplier 1: Digi-Key; Supplier 2: Mouser; Supplier Part Number 2: 667-ERJ-3EKF5902V; Supplier Part Number 1: P59.0KHCT-ND
footprint 0603 RES (Chip Resistor, 2-Leads, Body 1.60x0.85mm, IPC Medium Density)
simulation model Resistor
pins: 1, 2
1 alternate drawing of the same symbol

## Resistor 59R 0805
designator R?, comment 59R
Resistor 59R 0805 0.125W 1%; Mass_g: 0.0055; Revision: Altium ETH 11-03.2008; Value: 59R; Supplier 1: Digi-Key; Supplier 2: Digi-Key; Supplier Part Number 1: 311-59.0CRCT-ND; Supplier Part Number 2: P59.0CCT-ND
footprint 0805 RES (Chip Resistor, 2-Leads, Body 2.05x1.25mm, IPC Medium Density)
simulation model Resistor
pins: 1, 2
1 alternate drawing of the same symbol

## Resistor 61K9 0603
designator R?, comment 61.9K
Resistor 61.9K 0603 0.063W 0.1%; Revision: Altium ETH 11-03.2008; Value: 61.9K; Supplier 1: Digi-Key; Supplier 2: Digi-Key; Supplier Part Number 1: YAG4764CT-ND; Supplier Part Number 2: P20176CT-ND
footprint 0603 RES (Chip Resistor, 2-Leads, Body 1.60x0.85mm, IPC Medium Density)
simulation model Resistor
pins: 1, 2
1 alternate drawing of the same symbol

## Resistor 66K5 0805
designator R?, comment 66.5K
Resistor 66.5K 0805 0.1W 0.1%; Revision: Altium ETH 11-03.2008; Value: 66.5K; Supplier 1: Digi-Key; Supplier 2: Digi-Key; Supplier Part Number 1: YAG1953CT-ND; Supplier Part Number 2: P66.5KDACT-ND
footprint 0805 RES (Chip Resistor, 2-Leads, Body 2.05x1.25mm, IPC Medium Density)
simulation model Resistor
pins: 1, 2
1 alternate drawing of the same symbol

## Resistor 68K 0603
designator R?, comment 68K
Resistor 68K 0603 0.1W 1%; Revision: Altium ETH 11-03.2008; Value: 68K; Supplier 1: Digi-Key; Supplier Part Number 1: P68.0KHCT-ND; Supplier 2: Digi-Key; Supplier Part Number 2: YAG3625CT-ND
footprint 0603 RES (Chip Resistor, 2-Leads, Body 1.60x0.85mm, IPC Medium Density)
simulation model Resistor
pins: 1, 2
1 alternate drawing of the same symbol

## Resistor 68K 0603 0.1%
designator R?, comment 68K  Tolerance: 0.1%
Resistor 68K 0603 0.1W 0.1%; Revision: Altium ETH 11-03.2008; Value: 68K; Supplier 1: Mouser; Supplier 2: Digi-Key; Supplier Part Number 1: 667-ERA-3AEB683V; Supplier Part Number 2: A103121CT-ND
footprint 0603 RES (Chip Resistor, 2-Leads, Body 1.60x0.85mm, IPC Medium Density)
simulation model Resistor
pins: 1, 2
1 alternate drawing of the same symbol

## Resistor 68K 0805
designator R?, comment 68K
Resistor 68K 0805 0.125W 1%; Revision: Altium ETH 11-03.2008; Value: 68K; Supplier 1: Digi-Key; Supplier Part Number 1: P68.0KCCT-ND; Supplier 2: Digi-Key; Supplier Part Number 2: YAG3747CT-ND
footprint 0805 RES (Chip Resistor, 2-Leads, Body 2.05x1.25mm, IPC Medium Density)
simulation model Resistor
pins: 1, 2
1 alternate drawing of the same symbol

## Resistor 68R 0603
designator R?, comment 68R
Resistor 68R 0603 0.1W 1%; Revision: Altium ETH 11-03.2008; Value: 68R; Supplier 1: Digi-Key; Supplier Part Number 1: P68.0HDKR-ND; Supplier 2: Digi-Key; Supplier Part Number 2: 311-68.0HRCT-ND
footprint 0603 RES (Chip Resistor, 2-Leads, Body 1.60x0.85mm, IPC Medium Density)
simulation model Resistor
pins: 1, 2
1 alternate drawing of the same symbol

## Resistor 68R 0805
designator R?, comment 68R
Resistor 68R 0805 0.125W 1%; Revision: Altium ETH 11-03.2008; Value: 68R; Supplier 1: Digi-Key; Supplier Part Number 1: P68.0CCT-ND; Supplier 2: Digi-Key; Supplier Part Number 2: 311-68.0CRCT-ND
footprint 0805 RES (Chip Resistor, 2-Leads, Body 2.05x1.25mm, IPC Medium Density)
simulation model Resistor
pins: 1, 2
1 alternate drawing of the same symbol

## Resistor 71K5 0603
designator R?, comment 71.5K
Resistor 71.5K 0603 0.1W 1%; Revision: Altium ETH 11-03.2008; Value: 71.5K; Supplier 1: Digi-Key; Supplier Part Number 1: P71.5KHCT-ND; Supplier 2: Digi-Key; Supplier Part Number 2: RMCF0603FT71K5CT-ND; Supplier 3: Digi-Key; Supplier Part Number 3: 541-RCS060371K5FKEACT-ND
footprint 0603 RES (Chip Resistor, 2-Leads, Body 1.60x0.85mm, IPC Medium Density)
simulation model Resistor
pins: 1, 2
1 alternate drawing of the same symbol

## Resistor 75R 0603
designator R?, comment 75R
Resistor 75R 0603 0.1W 1%; Revision: Altium ETH 11-03.2008; Value: 75R; Supplier 1: Digi-Key; Supplier Part Number 1: P75.0HCT-ND; Supplier 2: Digi-Key; Supplier Part Number 2: 311-75.0HRCT-ND; Supplier 3: Digi-Key; Supplier Part Number 3: RMCF0603FT75R0CT-ND
footprint 0603 RES (Chip Resistor, 2-Leads, Body 1.60x0.85mm, IPC Medium Density)
simulation model Resistor
pins: 1, 2
1 alternate drawing of the same symbol

## Resistor 75R 0805
designator R?, comment 75R
Resistor 75R 0805 0.125W 1%; Revision: Altium ETH 11-03.2008; Value: 75R; Supplier 1: Digi-Key; Supplier Part Number 1: 311-75.0CRCT-ND; Supplier 2: Digi-Key; Supplier Part Number 2: P75.0CCT-ND
footprint 0805 RES (Chip Resistor, 2-Leads, Body 2.05x1.25mm, IPC Medium Density)
simulation model Resistor
pins: 1, 2
1 alternate drawing of the same symbol

## Resistor 75R 2512
designator R?, comment 75R
Resistor 75R 2512 22W 2%; Revision: Altium ETH 11-03.2008; Value: 75R; Supplier 1: Digi-Key; Supplier Part Number 1: 541-2664-1-ND; Supplier 2: Mouser; Supplier Part Number 2: 71-RCP2512W75R0GEB
footprint 2512 RES - VISHAY WIDE (Chip Resistor, 2-Leads, Body 6.35x3.15mm, IPC Medium Density)
simulation model Resistor
pins: 1, 2
1 alternate drawing of the same symbol

## Resistor 80R6 0805
designator R?, comment 80.6R
Resistor 80.6R 0805 0.125W 0.1%; Revision: Altium ETH 11-03.2008; Value: 80.6R; Supplier 1: Digi-Key; Supplier 2: Digi-Key; Supplier Part Number 1: YAG1977CT-ND; Supplier Part Number 2: P80.6DACT-ND
footprint 0805 RES (Chip Resistor, 2-Leads, Body 2.05x1.25mm, IPC Medium Density)
simulation model Resistor
pins: 1, 2
1 alternate drawing of the same symbol

## Resistor 82R 0603
designator R?, comment 82R
Resistor 82R 0603 0.1W 1%; Revision: Altium ETH 11-03.2008; Value: 82R; Supplier 1: Digi-Key; Supplier Part Number 1: P82.0HDKR-ND; Supplier 2: Digi-Key; Supplier Part Number 2: YAG5351CT-ND
footprint 0603 RES (Chip Resistor, 2-Leads, Body 1.60x0.85mm, IPC Medium Density)
simulation model Resistor
pins: 1, 2
1 alternate drawing of the same symbol

## Resistor 82R 0805
designator R?, comment 82R
Resistor 82R 0805 0.125W 1%; Revision: Altium ETH 11-03.2008; Value: 82R; Supplier 1: Digi-Key; Supplier Part Number 1: 311-82.0CRCT-ND; Supplier 2: Digi-Key; Supplier Part Number 2: P82.0CCT-ND
footprint 0805 RES (Chip Resistor, 2-Leads, Body 2.05x1.25mm, IPC Medium Density)
simulation model Resistor
pins: 1, 2
1 alternate drawing of the same symbol

## Resistor 90R9 0805
designator R?, comment 90.9R
Resistor 90.9R 0805 0.125W 0.1%; Revision: Altium ETH 11-03.2008; Value: 90.9R; Supplier 1: Digi-Key; Supplier 2: Digi-Key; Supplier Part Number 1: P90.9DACT-ND; Supplier Part Number 2: A110443CT-ND
footprint 0805 RES (Chip Resistor, 2-Leads, Body 2.05x1.25mm, IPC Medium Density)
simulation model Resistor
pins: 1, 2
1 alternate drawing of the same symbol

## Resistor 93K1 0603
designator R?, comment 93K1
Resistor 93.1KM 0603 0.1W 1%; Value: 1.2Meg; Revision: Altium ETH 11-03.2008; Supplier 1: Mouser; Supplier 2: Digi-Key; Supplier Part Number 1: 71-CRCW0603-93.1K-E3; Supplier Part Number 2: 541-93.1KHCT-ND
footprint 0603 RES (Chip Resistor, 2-Leads, Body 1.60x0.85mm, IPC Medium Density)
simulation model Resistor
pins: 1, 2
1 alternate drawing of the same symbol

## Resistor 97K6 0603
designator R?, comment 97K6
Resistor 97.6K 0603 0.1W 1%; Value: 1.2Meg; Revision: Altium ETH 11-03.2008; Supplier 1: Digi-Key; Supplier 2: Mouser; Supplier Part Number 1: 311-97.6KHRCT-ND; Supplier Part Number 2: 603-RC0603FR-0797K6L
footprint 0603 RES (Chip Resistor, 2-Leads, Body 1.60x0.85mm, IPC Medium Density)
simulation model Resistor
pins: 1, 2
1 alternate drawing of the same symbol

## Resistor 100K 0402
designator R?, comment 100K
Resistor 100K 0402 0.063W 1%; Revision: Altium ETH 11-03.2008; Value: 100K; Supplier 1: Digi-Key; Supplier Part Number 1: 311-100KLRCT-ND; Supplier 2: Digi-Key; Supplier Part Number 2: 1276-3432-1-ND; Supplier 3: Digi-Key; Supplier Part Number 3: RMCF0402FT100KCT-ND; Supplier 4: Digi-Key; Supplier Part Number 4: A129651CT-ND
footprint 0402 RES (Chip Capacitor, 2-Leads, Body 1.00x0.50mm, IPC Medium Density)
simulation model Resistor
pins: 1, 2
1 alternate drawing of the same symbol

## Resistor 100K 0603
designator R?, comment 100K
Resistor 100K 0603 0.1W 1%; Mass_g: 0.002; Revision: Altium ETH 11-03.2008; Value: 100K; Supplier 1: Digi-Key; Supplier Part Number 1: P100KHDKR-ND; Supplier 2: Digi-Key; Supplier Part Number 2: 311-100KHRCT-ND; Supplier 3: Digi-Key; Supplier Part Number 3: RMCF0603FG100KCT-ND
footprint 0603 RES (Chip Resistor, 2-Leads, Body 1.60x0.85mm, IPC Medium Density)
simulation model Resistor
pins: 1, 2
1 alternate drawing of the same symbol

## Resistor 100K 0805
designator R?, comment 100K
Resistor 100K 0805 0.5W 1%; Mass_g: 0.0055; Revision: Altium ETH 11-03.2008; Value: 100K; Supplier 1: Digi-Key; Supplier Part Number 1: P16060CT-ND; Supplier 2: Digi-Key; Supplier Part Number 2: 311-100KCRCT-ND
footprint 0805 RES (Chip Resistor, 2-Leads, Body 2.05x1.25mm, IPC Medium Density)
simulation model Resistor
footprint 0805 RES - SM Defined (Chip Resistor, 2-Leads, Body 2.05x1.25mm, IPC Medium Density)
pins: 1, 2
1 alternate drawing of the same symbol

## Resistor 100K 0805 0.1%
designator R?, comment 100K  Tolerance: 0.1%
Resistor 100K 0805 0.5W 0.1%; Revision: Altium ETH 11-03.2008; Value: 100K; Supplier 1: Digi-Key; Supplier Part Number 1: A140793CT-ND; Supplier 2: Digi-Key; Supplier Part Number 2: 2019-RN73R2ATTD1003B10CT-ND
footprint 0805 RES (Chip Resistor, 2-Leads, Body 2.05x1.25mm, IPC Medium Density)
simulation model Resistor
footprint 0805 RES - SM Defined (Chip Resistor, 2-Leads, Body 2.05x1.25mm, IPC Medium Density)
pins: 1, 2
1 alternate drawing of the same symbol

## Resistor 100R 0402
designator R?, comment 100R
Resistor 100R 0402 0.1W 1%; Revision: Altium ETH 11-03.2008; Value: 100R; Supplier 1: Digi-Key; Supplier Part Number 1: YAG3342CT-ND; Supplier 2: Digi-Key; Supplier Part Number 2: RMCF0402FT100RCT-ND; Supplier 3: Digi-Key; Supplier Part Number 3: A129615CT-ND
footprint 0402 RES (Chip Capacitor, 2-Leads, Body 1.00x0.50mm, IPC Medium Density)
simulation model Resistor
pins: 1, 2
1 alternate drawing of the same symbol

## Resistor 100R 0603
designator R?, comment 100R
Resistor 100R 0603 0.1W 1%; Mass_g: 0.002; Revision: Altium ETH 11-03.2008; Value: 100R; Supplier 1: Digi-Key; Supplier Part Number 1: P100HDKR-ND; Supplier 2: Digi-Key; Supplier Part Number 2: 311-100HRCT-ND
footprint 0603 RES (Chip Resistor, 2-Leads, Body 1.60x0.85mm, IPC Medium Density)
simulation model Resistor
pins: 1, 2
1 alternate drawing of the same symbol

## Resistor 100R 0805
designator R?, comment 100R
Resistor 100R 0805 0.125W 1%; Revision: Altium ETH 11-03.2008; Value: 100R; Supplier 1: Digi-Key; Supplier Part Number 1: P100CCT-ND; Supplier 2: Digi-Key; Supplier Part Number 2: 311-100CRCT-ND
footprint 0805 RES (Chip Resistor, 2-Leads, Body 2.05x1.25mm, IPC Medium Density)
simulation model Resistor
footprint 0805 RES - SM Defined (Chip Resistor, 2-Leads, Body 2.05x1.25mm, IPC Medium Density)
pins: 1, 2
1 alternate drawing of the same symbol

## Resistor 105K 0603
designator R?, comment 105K
Resistor 105K 0603 0.1W 1%; Revision: Altium ETH 11-03.2008; Value: 105K; Supplier 1: Digi-Key; Supplier 2: Digi-Key; Supplier Part Number 1: P105KHCT-ND; Supplier Part Number 2: 311-105KHRCT-ND
footprint 0603 RES (Chip Resistor, 2-Leads, Body 1.60x0.85mm, IPC Medium Density)
simulation model Resistor
pins: 1, 2
1 alternate drawing of the same symbol

## Resistor 113K 0603
designator R?, comment 113K
Resistor 113K 0603 0.1W 1%; Revision: Altium ETH 11-03.2008; Value: 113K; Supplier 1: Digi-Key; Supplier Part Number 1: P113KHCT-ND; Supplier 2: Digi-Key; Supplier Part Number 2: 311-113KHRCT-ND; Supplier 3: Digi-Key; Supplier Part Number 3: 13-AC0603FR-07113KLCT-ND
footprint 0603 RES (Chip Resistor, 2-Leads, Body 1.60x0.85mm, IPC Medium Density)
simulation model Resistor
pins: 1, 2
1 alternate drawing of the same symbol

## Resistor 120R 0603
designator R?, comment 120R
Resistor 120R 0603 0.1W 1%; Revision: Altium ETH 11-03.2008; Value: 120R; Supplier 1: Digi-Key; Supplier 2: Digi-Key; Supplier Part Number 1: 311-120HRCT-ND; Supplier Part Number 2: P120GCT-ND
footprint 0603 RES (Chip Resistor, 2-Leads, Body 1.60x0.85mm, IPC Medium Density)
simulation model Resistor
pins: 1, 2
1 alternate drawing of the same symbol

## Resistor 120R 0805
designator R?, comment 120R
Resistor 120R 0805 0.4W 1%; Revision: Altium ETH 11-03.2008; Value: 120R; Supplier 1: Mouser; Supplier Part Number 1: 660-SG73P2ATTD1200F; Supplier 2: Digi-Key; Supplier Part Number 2: 541-10500-1-ND
footprint 0805 RES (Chip Resistor, 2-Leads, Body 2.05x1.25mm, IPC Medium Density)
simulation model Resistor
pins: 1, 2
1 alternate drawing of the same symbol

## Resistor 130R 0805
designator R?, comment 130R
Resistor 130R 0805 0.125W 1%; Revision: Altium ETH 11-03.2008; Value: 130R; Supplier 1: Digi-Key; Supplier Part Number 1: 311-130CRCT-ND; Supplier 2: Digi-Key; Supplier Part Number 2: P130CCT-ND
footprint 0805 RES (Chip Resistor, 2-Leads, Body 2.05x1.25mm, IPC Medium Density)
simulation model Resistor
pins: 1, 2
1 alternate drawing of the same symbol

## Resistor 140K 0603
designator R?, comment 140K
Resistor 140K 0603 0.1W 1%; Revision: Altium ETH 11-03.2008; Value: 140K; Supplier 1: Digi-Key; Supplier Part Number 1: P140KHCT-ND; Supplier 2: Digi-Key; Supplier Part Number 2: RMCF0603FT140KCT-ND
footprint 0603 RES (Chip Resistor, 2-Leads, Body 1.60x0.85mm, IPC Medium Density)
simulation model Resistor
pins: 1, 2
1 alternate drawing of the same symbol

## Resistor 150K 0603
designator R?, comment 150K
Resistor 150K 0603 0.1W 1%; Revision: Altium ETH 11-03.2008; Value: 150K; Supplier 1: Digi-Key; Supplier Part Number 1: RMCF0603FT150KCT-ND; Supplier 2: Digi-Key; Supplier Part Number 2: P150KHCT-ND
footprint 0603 RES (Chip Resistor, 2-Leads, Body 1.60x0.85mm, IPC Medium Density)
simulation model Resistor
pins: 1, 2
1 alternate drawing of the same symbol

## Resistor 150R 0603
designator R?, comment 150R
Resistor 150R 0603 0.1W 1%; Revision: Altium ETH 11-03.2008; Value: 150R; Supplier 1: Digi-Key; Supplier Part Number 1: P150HCT-ND; Supplier 2: Digi-Key; Supplier Part Number 2: 311-150HRCT-ND
footprint 0603 RES (Chip Resistor, 2-Leads, Body 1.60x0.85mm, IPC Medium Density)
simulation model Resistor
pins: 1, 2
1 alternate drawing of the same symbol

## Resistor 150R 0805
designator R?, comment 150R
Resistor 150R 0805 0.125W 1%; Revision: Altium ETH 11-03.2008; Value: 150R; Supplier 1: Digi-Key; Supplier Part Number 1: P150CCT-ND; Supplier 2: Digi-Key; Supplier Part Number 2: 311-150CRCT-ND
footprint 0805 RES (Chip Resistor, 2-Leads, Body 2.05x1.25mm, IPC Medium Density)
simulation model Resistor
pins: 1, 2
1 alternate drawing of the same symbol

## Resistor 150R 0805 0.5W
designator R?, comment 150R  Power: 0.5W
Resistor 150R 0805 0.5W 5%; Mass_g: 0.0055; Revision: Altium ETH 11-03.2008; Value: 150R; Supplier 1: Digi-Key; Supplier Part Number 1: P150ADCT-ND; Supplier 2: Digi-Key; Supplier Part Number 2: 10-ERJ-HP6J151VCT-ND
footprint 0805 RES (Chip Resistor, 2-Leads, Body 2.05x1.25mm, IPC Medium Density)
simulation model Resistor
pins: 1, 2
1 alternate drawing of the same symbol

## Resistor 160K 0603
designator R?, comment 160K
Resistor 160K 0603 0.1W 1%; Revision: Altium ETH 11-03.2008; Value: 160K; Supplier 1: Digi-Key; Supplier Part Number 1: P160KHCT-ND; Supplier 2: Digi-Key; Supplier Part Number 2: RMCF0603FT160KCT-ND
footprint 0603 RES (Chip Resistor, 2-Leads, Body 1.60x0.85mm, IPC Medium Density)
simulation model Resistor
pins: 1, 2
1 alternate drawing of the same symbol

## Resistor 178K 0805
designator R?, comment 178K
Resistor 178K 0805 0.125W 1%; Revision: Altium ETH 11-03.2008; Value: 178K; Supplier 1: Digi-Key; Supplier 2: Digi-Key; Supplier Part Number 1: 311-178KCRCT-ND; Supplier Part Number 2: P178KCCT-ND
footprint 0805 RES (Chip Resistor, 2-Leads, Body 2.05x1.25mm, IPC Medium Density)
simulation model Resistor
pins: 1, 2
1 alternate drawing of the same symbol

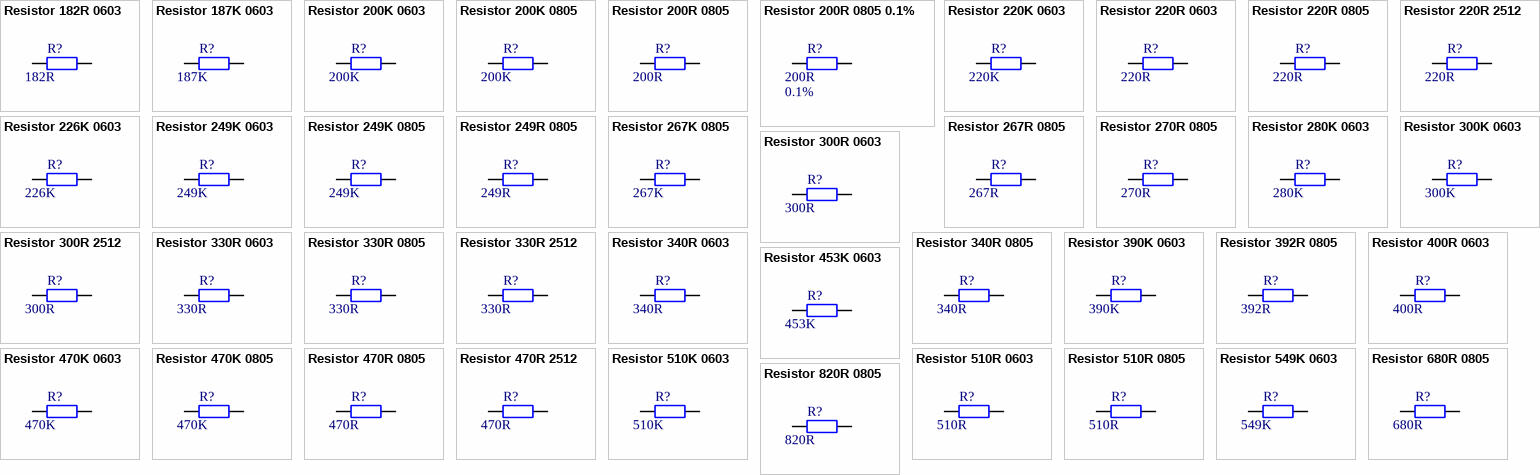
[diagram p6: symbols Resistor 182R 0603 to Resistor 820R 0805]

## Resistor 182R 0603
designator R?, comment 182R
Resistor 182R 0603 0.1W 1%; Revision: Altium ETH 11-03.2008; Value: 182R; Supplier 1: Digi-Key; Supplier Part Number 1: P182HCT-ND; Supplier 2: Digi-Key; Supplier Part Number 2: 541-182HCT-ND
footprint 0603 RES (Chip Resistor, 2-Leads, Body 1.60x0.85mm, IPC Medium Density)
simulation model Resistor
pins: 1, 2
1 alternate drawing of the same symbol